# EAGLE library part DMC2053UVT-7 (library SamacSys_Parts)
MOSFET MOSFET BVDSS: 8V-24V Source: Datasheet <https://www.diodes.com/assets/Datasheets/DMC2053UVT.pdf>
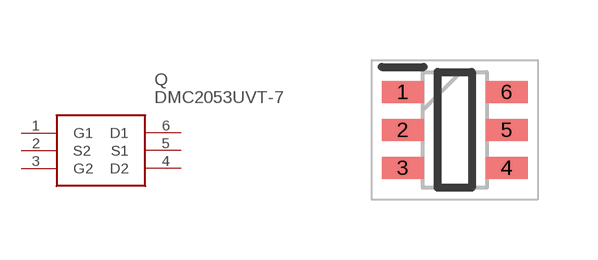
[diagram p1: symbol with the pads of SOT95P280X100-6N; footprint SOT95P280X100-6N]

Designator prefix Q

## DMC2053UVT-7 (Description: MOSFET MOSFET BVDSS: 8V-24V; Height: 1mm; Manufacturer_Name: Diodes Inc.; Manufacturer_Part_Number: DMC2053UVT-7; Mouser_Part_Number: 621-DMC2053UVT-7; Mouser_Price-Stock: https://www.mouser.co.uk/ProductDetail/Diodes-Incorporated/DMC2053UVT-7?qs=byeeYqUIh0PdBsBYl%2FXGHA%3D%3D)  [SOT95P280X100-6N]
1  G1
2  S2
3  G2
4  D2
5  S1
6  D1

## Footprint SOT95P280X100-6N (pad centres in mm)
TSOT26_1-1
smd 1.05 x 0.55: 1 -1.3,0.95; 2 -1.3,0; 3 -1.3,-0.95; 4 1.3,-0.95; 5 1.3,0; 6 1.3,0.95